# Altium integrated library 100DP3T1B1M2QEH.IntLib: 1 symbol
Pins are listed as number, name and electrical type; pins without a type are passive.

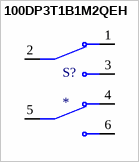
[diagram p0: symbol 100DP3T1B1M2QEH]

## 100DP3T1B1M2QEH
designator S?
MP: 100DP3T1B1M2QEH; Availability: Unavailable; Package: None; Price: None; Value: *
footprint SW_100DP3T1B1M2QEH
pins: 1, 2, 3, 4, 5, 6